# Altium footprint library MiniTrimmer.PcbLib: 1 footprints
Each footprint in its own frame and in the unit in brackets; x right, y up, seen from the top. Pads: shape width x height; smd on the part's side, far side on the other; paste and mask are expansions set on the pad; w line width, h text height; cw(c..) or ccw(c..) is an arc to the next point about the centre after c.
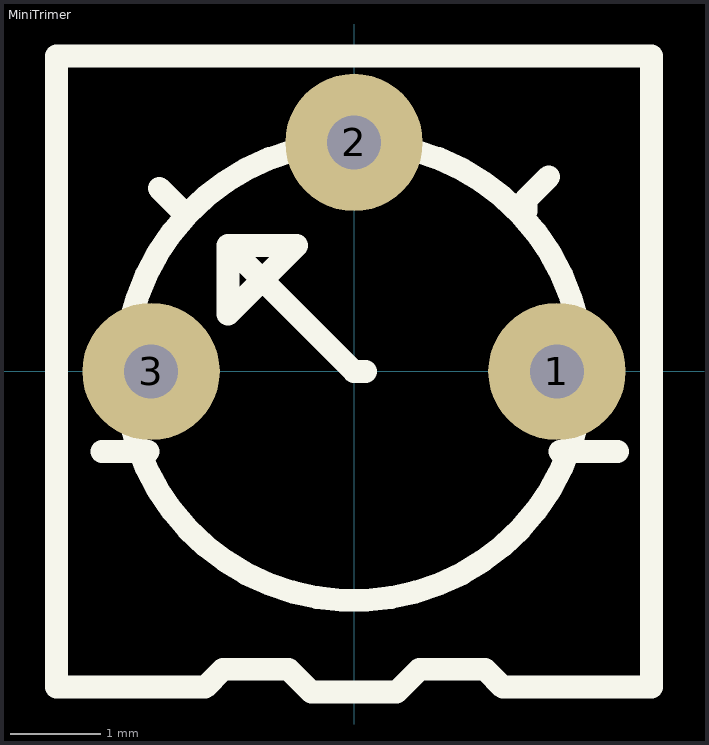
[diagram p0: the footprint, top view; thin cyan lines are the x and y axes]

## MiniTrimer [mil]
pads (3):
  round 60 hole 23.62: 1(88.58,0) 2(0,100) 3(-88.58,0)
Top Overlay:
  circle w10: c0,0 r100
  lines w10: -110,-35 -90,-35 ; -85,80 -75,70 ; 0,100 0,115 ; 5,0 0,0 -55,55 ; 75,70 75,75 85,85 ; 90,-35 115,-35 ; -55,55 -25,55 -55,25 -55,55 ; -129.92,-137.8 -64.96,-137.8 -57.17,-130 -28.58,-130 -18.58,-140 18.58,-140 28.58,-130 57.17,-130 64.96,-137.8 129.92,-137.8 129.92,137.8 -129.92,137.8 -129.92,-137.8